# EAGLE library part PH_STAMP (library CyberRailGuru)
pH stamp from Atlas Scientific. Measures pH through simple RS-232-ish interface.
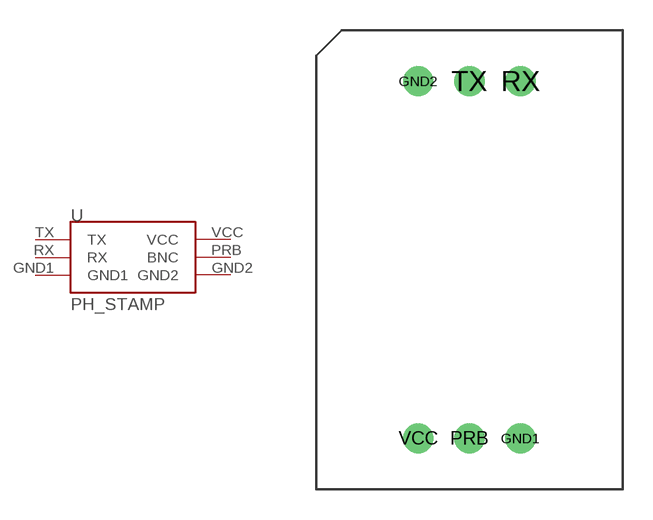
[diagram p6: symbol with the pads of PH_STAMP; footprint PH_STAMP]

Designator prefix U

## PH_STAMP  [PH_STAMP]
GND1  GND1
GND2  GND2
PRB  BNC
RX  RX
TX  TX
VCC  VCC

## Footprint PH_STAMP (pad centres in mm)
drill 1: GND1 10.16,2.54; GND2 5.08,20.32; PRB 7.62,2.54; RX 10.16,20.32; TX 7.62,20.32; VCC 5.08,2.54